# Altium footprint library CC2538+2592.PcbLib: 1 footprints
Each footprint in its own frame and in the unit in brackets; x right, y up, seen from the top. Pads: shape width x height; smd on the part's side, far side on the other; paste and mask are expansions set on the pad; w line width, h text height; cw(c..) or ccw(c..) is an arc to the next point about the centre after c.
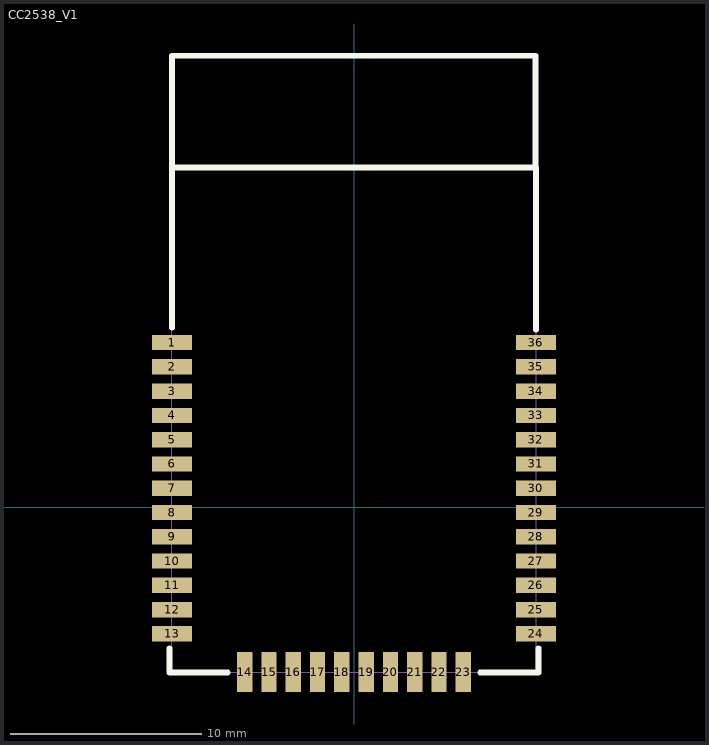
[diagram p0: the footprint, top view; thin cyan lines are the x and y axes]

## CC2538_V1 [mm] "WAVGAT CC2538 + CC2592 module Communication distance Support zigbee/6lowpan"
pads (36):
  rect 2.1x0.8 smd: 1(-9.515,8.62) 2(-9.515,7.35) 3(-9.515,6.08) 4(-9.515,4.81) 5(-9.515,3.54) 6(-9.515,2.27) 7(-9.515,1) 8(-9.515,-0.27) 9(-9.515,-1.54) 10(-9.515,-2.81) 11(-9.515,-4.08) 12(-9.515,-5.35) 13(-9.515,-6.62) 24(9.515,-6.62) 25(9.515,-5.35) 26(9.515,-4.08) 27(9.515,-2.81) 28(9.515,-1.54) 29(9.515,-0.27) 30(9.515,1) 31(9.515,2.27) 32(9.515,3.54) 33(9.515,4.81) 34(9.515,6.08) 35(9.515,7.35) 36(9.515,8.62)
  rect 0.8x2.1 smd mask+0.102: 14(-5.715,-8.62)
  rect 0.8x2.1 smd: 15(-4.445,-8.62) 16(-3.175,-8.62) 17(-1.905,-8.62) 18(-0.635,-8.62) 19(0.635,-8.62) 20(1.905,-8.62) 21(3.175,-8.62) 22(4.445,-8.62) 23(5.715,-8.62)
Top Overlay:
  lines w0.05: 9.5,17.78 9.525,17.78
  lines w0.3: -9.652,-7.366 -9.652,-8.636 -6.604,-8.636 ; -9.525,9.398 -9.525,23.622 9.5,23.622 9.5,17.78 ; -9.474,17.78 9.525,17.78 9.525,9.296 ; 6.604,-8.636 9.652,-8.636 9.652,-7.366
Mechanical 2:
  lines w0.05: -9.525,-8.636 9.525,-8.636 9.525,23.622 -9.525,23.622 -9.525,-8.636
3D body "CC2538_CC2592.step": height 1.65, standoff -0.01, extent -10.287,-9.144 10.233,23.866